# Altium schematic symbol library OLED.SchLib: 1 symbol
Pins are listed as number, name and electrical type; pins without a type are passive.

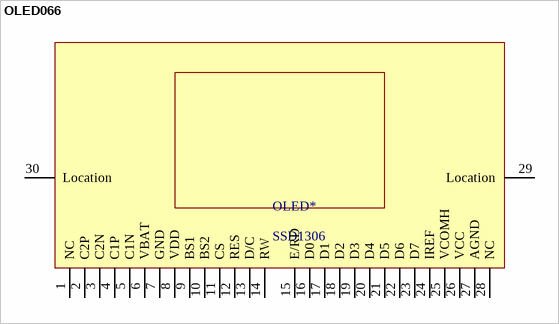
[diagram p0: symbol OLED066]

## OLED066
designator OLED*, comment SSD1306
footprint OLED_066
pins: 1 NC, 2 C2P, 3 C2N, 4 C1P, 5 C1N, 6 VBAT, 7 GND, 8 VDD, 9 BS1, 10 BS2, 11 CS, 12 RES, 13 D/C, 14 RW, 15 E/RD, 16 D0, 17 D1, 18 D2, 19 D3, 20 D4, 21 D5, 22 D6, 23 D7, 24 IREF, 25 VCOMH, 26 VCC, 27 AGND, 28 NC, 29 Location, 30 Location